# Altium schematic symbol library TPS2066CDR.Schlib: 1 symbol
Pins are listed as number, name and electrical type; pins without a type are passive.

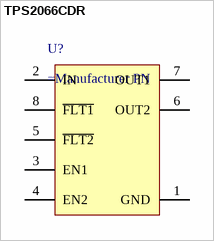
[diagram p0: symbol TPS2066CDR]

## TPS2066CDR
designator U?
Power Switch
pins: 1 GND, 2 IN, 3 EN1, 4 EN2, 5 ~{FLT2}, 6 OUT2, 7 OUT1, 8 ~{FLT1}